# Altium footprint library TE 1-1734264-1.PcbLib: 1 footprints
Each footprint in its own frame and in the unit in brackets; x right, y up, seen from the top. Pads: shape width x height; smd on the part's side, far side on the other; paste and mask are expansions set on the pad; w line width, h text height; cw(c..) or ccw(c..) is an arc to the next point about the centre after c.
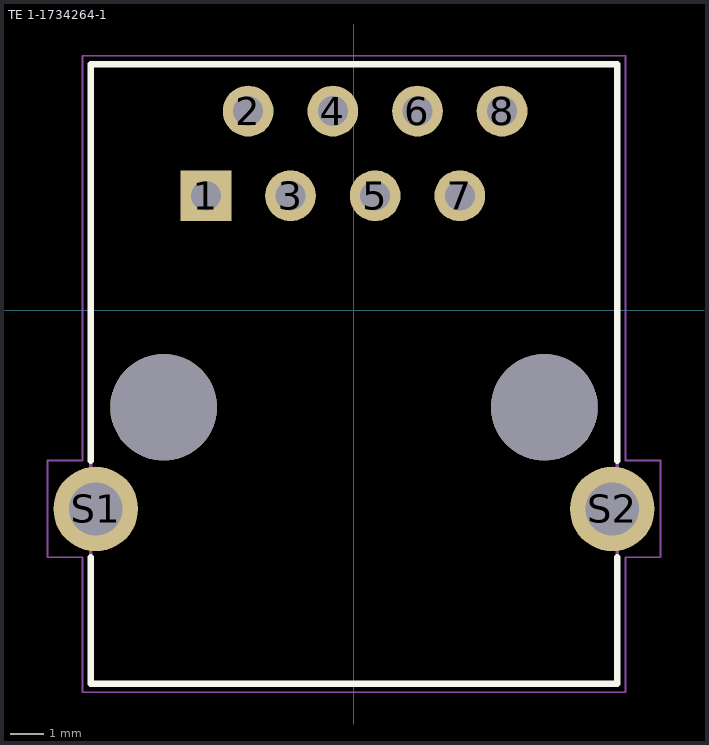
[diagram p0: the footprint, top view; thin cyan lines are the x and y axes]

## TE 1-1734264-1 [mm] "RJ45 Connector"
height 13.2
pads (12):
  rect 1.524x1.524 hole 0.9: 1(-4.445,3.43)
  round 1.524 hole 0.9: 2(-3.175,5.97) 3(-1.905,3.43) 4(-0.635,5.97) 5(0.635,3.43) 6(1.905,5.97) 7(3.175,3.43) 8(4.445,5.97)
  round 2.54 hole 1.6: S1(-7.75,-5.97) S2(7.75,-5.97)
  round 3.2 hole 3.2 unplated: ""(-5.715,-2.92) ""(5.715,-2.92)
Top Overlay:
  lines w0.2: -7.9,-7.424 -7.9,-11.22 7.9,-11.22 7.9,-7.424 ; -7.9,-4.516 -7.9,7.38 7.9,7.38 7.9,-4.516
Top Assembly:
  lines w0.1: -7.9,-11.22 7.9,-11.22 7.9,7.38 -7.9,7.38 -7.9,-11.22
Top Courtyard:
  lines w0.05: -9.2,-7.424 -8.15,-7.424 -8.15,-11.47 8.15,-11.47 8.15,-7.424 9.2,-7.424 9.2,-4.516 8.15,-4.516 8.15,7.63 -8.15,7.63 -8.15,-4.516 -9.2,-4.516 -9.2,-7.424
Top Designator:
  text ".Designator" at -7.498,-0.5 h1.5
3D body "c-1-1734264-1-a-3d.stp": height 14.7, standoff -3.7, extent -7.9,-11.22 7.9,7.38